# Altium schematic symbol library STM8.SchLib: 1 symbol
Pins are listed as number, name and electrical type; pins without a type are passive.

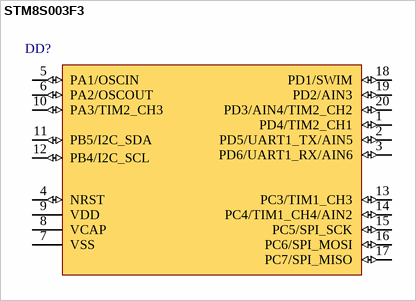
[diagram p0: symbol STM8S003F3]

## STM8S003F3
designator DD?  (value not drawn)
Value line, 16-MHz STM8S 8-bit MCU, 8-Kbyte Flash memory, / 128-byte data EEPROM, 10-bit ADC, 3 timers, UART, SPI, I²C
footprint TSSOP20 – 20-lead(STM8) - duplicate (TSOP, 20-Leads, Body 6,50x4,40mm, Pitch 0,65mm, IPC Medium Density)
pins: 1 PD4/TIM2_CH1 (io), 2 PD5/UART1_TX/AIN5 (io), 3 PD6/UART1_RX/AIN6 (io), 4 NRST (io), 5 PA1/OSCIN (io), 6 PA2/OSCOUT (io), 7 VSS (power), 8 VCAP (power), 9 VDD (power), 10 PA3/TIM2_CH3 (io), 11 PB5/I2C_SDA (io), 12 PB4/I2C_SCL (io), 13 PC3/TIM1_CH3 (io), 14 PC4/TIM1_CH4/AIN2 (io), 15 PC5/SPI_SCK (io), 16 PC6/SPI_MOSI (io), 17 PC7/SPI_MISO (io), 18 PD1/SWIM (io), 19 PD2/AIN3 (io), 20 PD3/AIN4/TIM2_CH2 (io)